# Altium schematic symbol library DSUB9.SchLib: 1 symbol
Pins are listed as number, name and electrical type; pins without a type are passive.

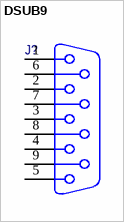
[diagram p0: symbol DSUB9]

## DSUB9
designator J?  (value not drawn)
pins: 1, 2, 3, 4, 5, 6, 7, 8, 9